# Altium integrated library ST Comm MODEM Circuit.IntLib: 15 symbols
Pins are listed as number, name and electrical type; pins without a type are passive.

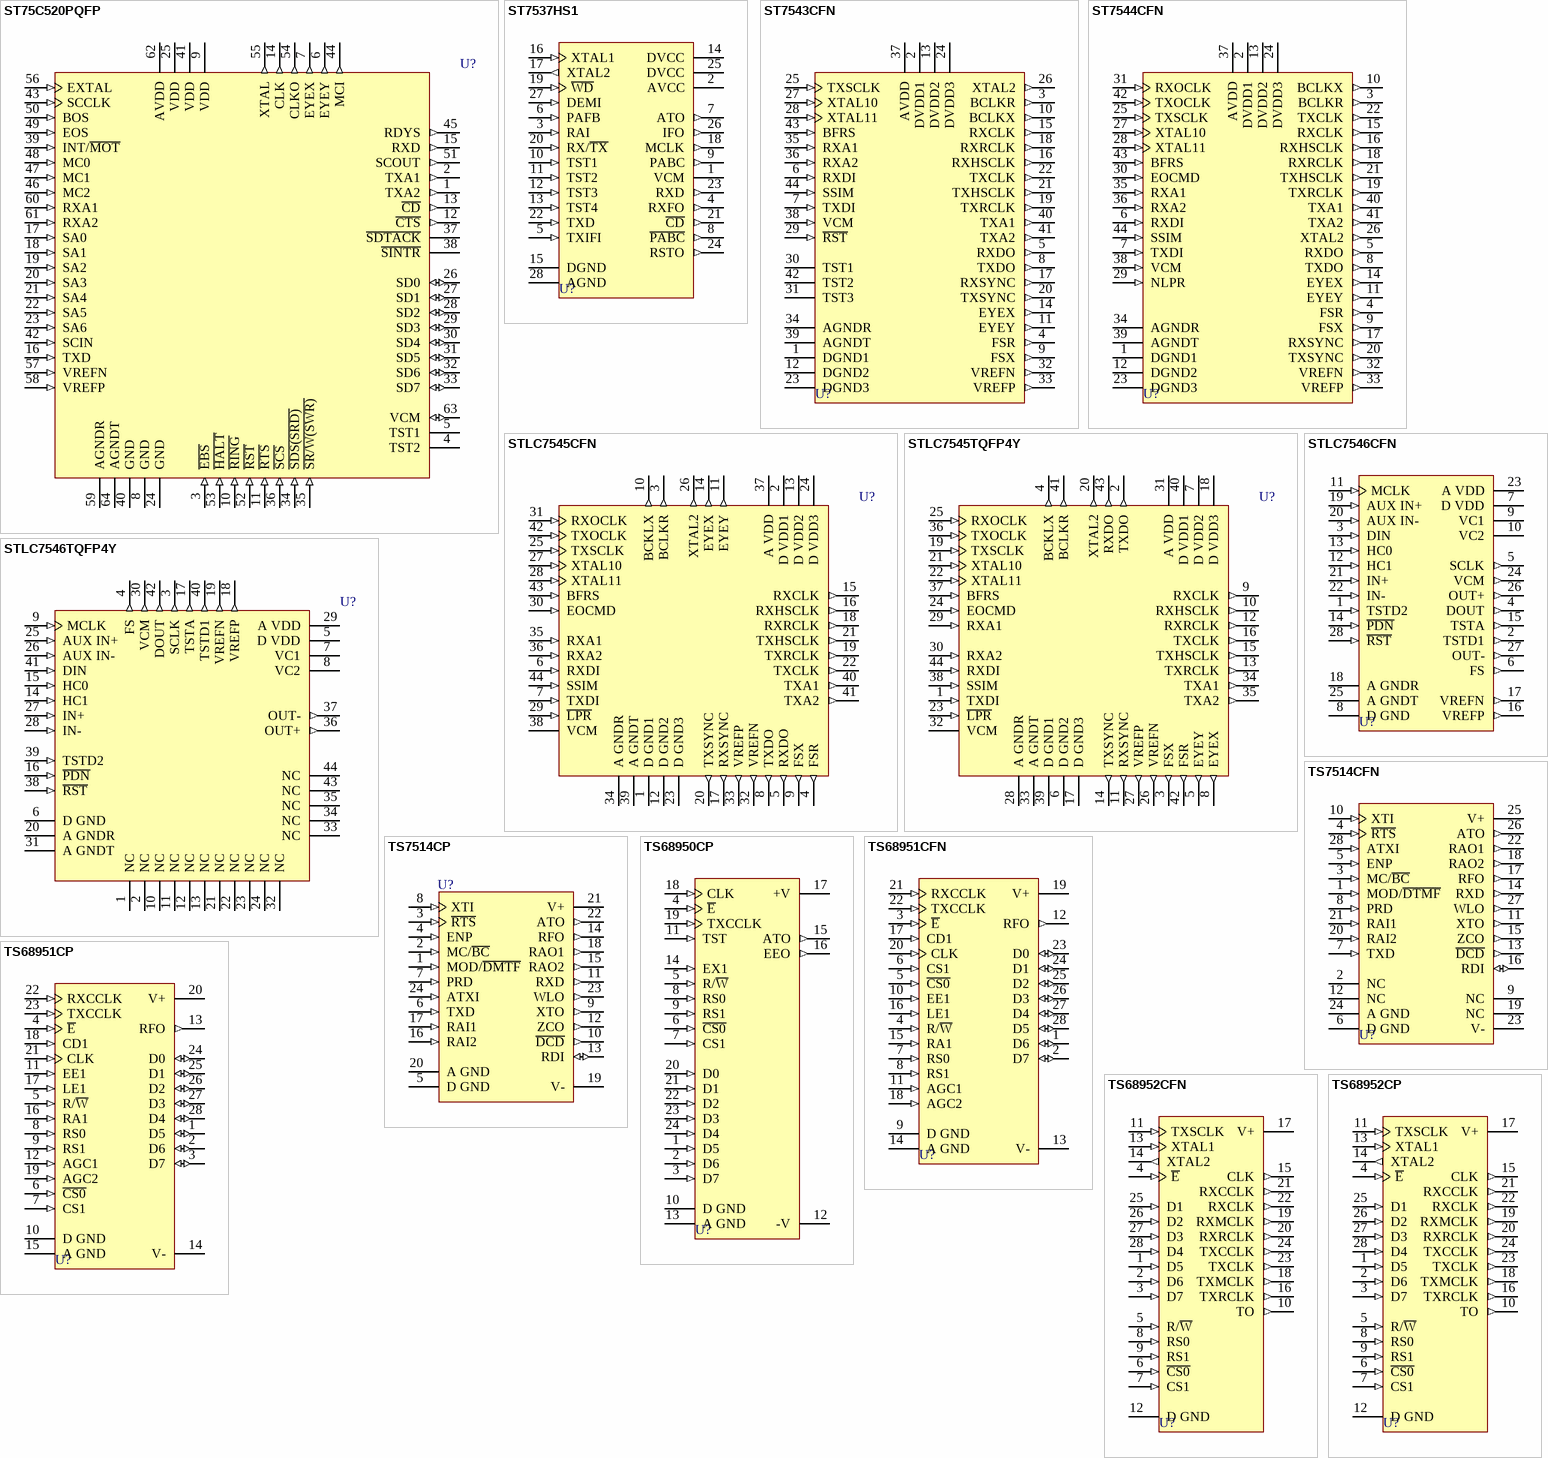
[diagram p0: symbols ST75C520PQFP to TS68952CP]

## ST75C520PQFP
designator U?
High Speed Fax Modem Data Pump; Published: 24-Aug-2001; LatestRevisionDate: 13-Apr-2006; LatestRevisionNote: IPC-7351 Footprint Added.; DatasheetVersion: Jun-1995; PackageVersion: Jul-2001; PackageReference: PQFP64; Publisher: Altium Limited; PackageDescription: 64-Pin Plastic Quad Flat Pack 0.8 mm Pitch; Code_IPC: QFP80P1720X1720-64; ComponentLink1Description: Manufacturer Link; ComponentLink1URL: http://www.st.com/
footprint PQFP64_N (QFP, 64-Leads, Body 14x14mm, Pitch 0.8mm, IPC Medium Density)
footprint PQFP64_L (QFP, 64-Leads, Body 14x14mm, Pitch 0.8mm, IPC High Density)
footprint PQFP64_M (QFP, 64-Leads, Body 14x14mm, Pitch 0.8mm, IPC Low Density)
3D model ST75C520-PQFP64 (64-Pin Plastic Quad Flat Pack 0.8 mm Pitch)
pins: 1 TXA2 (out), 2 TXA1 (out), 3 ~{EBS} (in), 4 TST2, 5 TST1, 6 EYEY (out), 7 EYEX (out), 8 GND (power), 9 VDD (power), 10 ~{RING} (in), 11 ~{RTS} (in), 12 ~{CTS} (out), 13 ~{CD} (out), 14 CLK (out), 15 RXD (out), 16 TXD (in), 17 SA0 (in), 18 SA1 (in), 19 SA2 (in), 20 SA3 (in), 21 SA4 (in), 22 SA5 (in), 23 SA6 (in), 24 GND (power), 25 VDD (power), 26 SD0 (io), 27 SD1 (io), 28 SD2 (io), 29 SD3 (io), 30 SD4 (io), 31 SD5 (io), 32 SD6 (io), 33 SD7 (io), 34 ~{SDS(SRD)} (in), 35 ~{SR/W(SWR)} (in), 36 ~{SCS} (in), 37 ~{SDTACK} (oc), 38 ~{SINTR} (oc), 39 INT/~{MOT} (in), 40 GND (power), 41 VDD (power), 42 SCIN (in), 43 SCCLK (in), 44 MCI (out), 45 RDYS (out), 46 MC2 (in), 47 MC1 (in), 48 MC0 (in), 49 EOS (in), 50 BOS (in), 51 SCOUT (out), 52 ~{RST} (in), 53 ~{HALT} (in), 54 CLKO (out), 55 XTAL (out), 56 EXTAL (in), 57 VREFN (in), 58 VREFP (in), 59 AGNDR (power), 60 RXA1 (in), 61 RXA2 (in), 62 AVDD (power), 63 VCM (io), 64 AGNDT (power)

## ST7537HS1
designator U?
Home Automation Modem; Published: 24-Aug-2001; LatestRevisionDate: 13-Apr-2006; LatestRevisionNote: IPC-7351 Footprint Added.; DatasheetVersion: Jun-1995; PackageVersion: Jan-1995; PackageReference: PLCC28; Publisher: Altium Limited; PackageDescription: 28-Pin Leaded Chip Carrier 1.27 mm Pitch; Code_IPC: PLCC-28; ComponentLink1Description: Manufacturer Link; ComponentLink1URL: http://www.st.com/
footprint PLCC28_N (Leaded Chip Carrier, 28-Leads, Body 11.5x11.5mm, Pitch 1.27mm, IPC Medium Density)
footprint PLCC28_L (Leaded Chip Carrier, 28-Leads, Body 11.5x11.5mm, Pitch 1.27mm, IPC High Density)
footprint PLCC28_M (Leaded Chip Carrier, 28-Leads, Body 11.5x11.5mm, Pitch 1.27mm, IPC Low Density)
3D model ST7537-PLCC28 (28-Pin Leaded Chip Carrier 1.27 mm Pitch)
pins: 1 VCM, 2 AVCC (power), 3 RAI (in), 4 RXFO (out), 5 TXIFI (in), 6 PAFB (in), 7 ATO (out), 8 ~{PABC} (out), 9 PABC (out), 10 TST1 (in), 11 TST2 (in), 12 TST3 (in), 13 TST4 (in), 14 DVCC (power), 15 DGND (power), 16 XTAL1 (in), 17 XTAL2 (out), 18 MCLK (out), 19 ~{WD} (in), 20 RX/~{TX} (in), 21 ~{CD} (out), 22 TXD (in), 23 RXD (out), 24 RSTO (out), 25 DVCC (power), 26 IFO (out), 27 DEMI (in), 28 AGND (power)

## ST7543CFN
designator U?
Universal Modem Analog Front-End (UMAFE); Published: 24-Aug-2001; LatestRevisionDate: 13-Apr-2006; LatestRevisionNote: IPC-7351 Footprint Added.; PackageVersion: Feb-1997; PackageReference: PLCC44A; Publisher: Altium Limited; PackageDescription: 44-Pin Leaded Chip Carrier 1.27 mm Pitch; Code_IPC: PLCC-44; ComponentLink1Description: Manufacturer Link; ComponentLink1URL: http://www.st.com/
footprint PLCC44A_N (Leaded Chip Carrier, 44-Leads, Body 16.6x16.6mm, Pitch 1.27mm, IPC Medium Density)
footprint PLCC44A_L (Leaded Chip Carrier, 44-Leads, Body 16.6x16.6mm, Pitch 1.27mm, IPC High Density)
footprint PLCC44A_M (Leaded Chip Carrier, 44-Leads, Body 16.6x16.6mm, Pitch 1.27mm, IPC Low Density)
3D model ST7543-PLCC44 (44-Pin Leaded Chip Carrier 1.27 mm Pitch)
pins: 1 DGND1 (power), 2 DVDD1 (power), 3 BCLKR (out), 4 FSR (out), 5 RXDO (out), 6 RXDI (in), 7 TXDI (in), 8 TXDO (out), 9 FSX (out), 10 BCLKX (out), 11 EYEY (out), 12 DGND2 (power), 13 DVDD2 (power), 14 EYEX (out), 15 RXCLK (out), 16 RXHSCLK (out), 17 RXSYNC (out), 18 RXRCLK (out), 19 TXRCLK (out), 20 TXSYNC (out), 21 TXHSCLK (out), 22 TXCLK (out), 23 DGND3 (power), 24 DVDD3 (power), 25 TXSCLK (in), 26 XTAL2 (out), 27 XTAL10 (in), 28 XTAL11 (in), 29 ~{RST} (in), 30 TST1, 31 TST3, 32 VREFN (out), 33 VREFP (out), 34 AGNDR (power), 35 RXA1 (in), 36 RXA2 (in), 37 AVDD (power), 38 VCM (in), 39 AGNDT (power), 40 TXA1 (out), 41 TXA2 (out), 42 TST2, 43 BFRS (in), 44 SSIM (in)

## ST7544CFN
designator U?
Universal Modem Analog Front-End (UMAFE); Published: 24-Aug-2001; LatestRevisionDate: 13-Apr-2006; LatestRevisionNote: IPC-7351 Footprint Added.; DatasheetVersion: Jun-1995; PackageVersion: Feb-1997; PackageReference: PLCC44A; Publisher: Altium Limited; PackageDescription: 44-Pin Leaded Chip Carrier 1.27 mm Pitch; Code_IPC: PLCC-44; ComponentLink1Description: Manufacturer Link; ComponentLink1URL: http://www.st.com/
footprint PLCC44A_N (Leaded Chip Carrier, 44-Leads, Body 16.6x16.6mm, Pitch 1.27mm, IPC Medium Density)
footprint PLCC44A_L (Leaded Chip Carrier, 44-Leads, Body 16.6x16.6mm, Pitch 1.27mm, IPC High Density)
footprint PLCC44A_M (Leaded Chip Carrier, 44-Leads, Body 16.6x16.6mm, Pitch 1.27mm, IPC Low Density)
3D model ST7544-PLCC44 (44-Pin Leaded Chip Carrier 1.27 mm Pitch)
pins: 1 DGND1 (power), 2 DVDD1 (power), 3 BCLKR (out), 4 FSR (out), 5 RXDO (out), 6 RXDI (in), 7 TXDI (in), 8 TXDO (out), 9 FSX (out), 10 BCLKX (out), 11 EYEY (out), 12 DGND2 (power), 13 DVDD2 (power), 14 EYEX (out), 15 RXCLK (out), 16 RXHSCLK (out), 17 RXSYNC (out), 18 RXRCLK (out), 19 TXRCLK (out), 20 TXSYNC (out), 21 TXHSCLK (out), 22 TXCLK (out), 23 DGND3 (power), 24 DVDD3 (power), 25 TXSCLK (in), 26 XTAL2 (out), 27 XTAL10 (in), 28 XTAL11 (in), 29 NLPR (in), 30 EOCMD (in), 31 RXOCLK (in), 32 VREFN (out), 33 VREFP (out), 34 AGNDR (power), 35 RXA1 (in), 36 RXA2 (in), 37 AVDD (power), 38 VCM (in), 39 AGNDT (power), 40 TXA1 (out), 41 TXA2 (out), 42 TXOCLK (in), 43 BFRS (in), 44 SSIM (in)

## STLC7545CFN
designator U?
Enhanced V.34 BIS Analog Front-End; Published: 24-Aug-2001; LatestRevisionDate: 13-Apr-2006; LatestRevisionNote: IPC-7351 Footprint Added.; DatasheetVersion: Apr-1996; PackageVersion: Feb-1997; PackageReference: PLCC44A; Publisher: Altium Limited; PackageDescription: 44-Pin Leaded Chip Carrier 1.27 mm Pitch; Code_IPC: PLCC-44; ComponentLink1Description: Manufacturer Link; ComponentLink1URL: http://www.st.com/
footprint PLCC44A_N (Leaded Chip Carrier, 44-Leads, Body 16.6x16.6mm, Pitch 1.27mm, IPC Medium Density)
footprint PLCC44A_L (Leaded Chip Carrier, 44-Leads, Body 16.6x16.6mm, Pitch 1.27mm, IPC High Density)
footprint PLCC44A_M (Leaded Chip Carrier, 44-Leads, Body 16.6x16.6mm, Pitch 1.27mm, IPC Low Density)
3D model STLC7545-PLCC44 (44-Pin Leaded Chip Carrier 1.27 mm Pitch)
pins: 1 D GND1 (power), 2 D VDD1 (power), 3 BCLKR (out), 4 FSR (out), 5 RXDO (out), 6 RXDI (in), 7 TXDI (in), 8 TXDO (out), 9 FSX (out), 10 BCKLX (out), 11 EYEY (out), 12 D GND2 (power), 13 D VDD2 (power), 14 EYEX (out), 15 RXCLK (out), 16 RXHSCLK (out), 17 RXSYNC (out), 18 RXRCLK (out), 19 TXRCLK (out), 20 TXSYNC (out), 21 TXHSCLK (out), 22 TXCLK (out), 23 D GND3 (power), 24 D VDD3 (power), 25 TXSCLK (in), 26 XTAL2 (out), 27 XTAL10 (in), 28 XTAL11 (in), 29 ~{LPR} (in), 30 EOCMD (in), 31 RXOCLK (in), 32 VREFN (out), 33 VREFP (out), 34 A GNDR (power), 35 RXA1 (in), 36 RXA2 (in), 37 A VDD (power), 38 VCM, 39 A GNDT (power), 40 TXA1 (out), 41 TXA2 (out), 42 TXOCLK (in), 43 BFRS (in), 44 SSIM (in)

## STLC7545TQFP4Y
designator U?
Enhanced V.34 BIS Analog Front-End; Published: 24-Aug-2001; LatestRevisionDate: 13-Apr-2006; LatestRevisionNote: IPC-7351 Footprint Added.; DatasheetVersion: Apr-1996; PackageVersion: Oct-2003; PackageReference: TQFP44; Publisher: Altium Limited; PackageDescription: 44-Pin Thin Plastic Quad Flat Pack 0.8 mm Pitch; ComponentLink1Description: Manufacturer Link; ComponentLink1URL: http://www.st.com/
footprint TQFP44_N (Thin QFP, 44-Leads, Body 10x10mm, Pitch 0.8mm, IPC Medium Density)
footprint TQFP44_L (Thin QFP, 44-Leads, Body 10x10mm, Pitch 0.8mm, IPC High Density)
footprint TQFP44_M (Thin QFP, 44-Leads, Body 10x10mm, Pitch 0.8mm, IPC Low Density)
3D model STLC7545-TQFP44 (44-Pin Thin Plastic Quad Flat Pack 0.8 mm Pitch)
pins: 1 TXDI (in), 2 TXDO (out), 3 FSX (out), 4 BCKLX (out), 5 EYEY (out), 6 D GND2 (power), 7 D VDD2 (power), 8 EYEX (out), 9 RXCLK (out), 10 RXHSCLK (out), 11 RXSYNC (out), 12 RXRCLK (out), 13 TXRCLK (out), 14 TXSYNC (out), 15 TXHSCLK (out), 16 TXCLK (out), 17 D GND3 (power), 18 D VDD3 (power), 19 TXSCLK (in), 20 XTAL2 (out), 21 XTAL10 (in), 22 XTAL11 (in), 23 ~{LPR} (in), 24 EOCMD (in), 25 RXOCLK (in), 26 VREFN (out), 27 VREFP (out), 28 A GNDR (power), 29 RXA1 (in), 30 RXA2 (in), 31 A VDD (power), 32 VCM, 33 A GNDT (power), 34 TXA1 (out), 35 TXA2 (out), 36 TXOCLK (in), 37 BFRS (in), 38 SSIM (in), 39 D GND1 (power), 40 D VDD1 (power), 41 BCLKR (out), 42 FSR (out), 43 RXDO (out), 44 RXDI (in)

## STLC7546CFN
designator U?
Modem (V.34BIS) Analog Front-End; Published: 24-Aug-2001; LatestRevisionDate: 13-Apr-2006; LatestRevisionNote: IPC-7351 Footprint Added.; DatasheetVersion: Aug-1998; PackageVersion: Jan-1995; PackageReference: PLCC28; Publisher: Altium Limited; PackageDescription: 28-Pin Leaded Chip Carrier 1.27 mm Pitch; Code_IPC: PLCC-28; ComponentLink1Description: Manufacturer Link; ComponentLink1URL: http://www.st.com/
footprint PLCC28_N (Leaded Chip Carrier, 28-Leads, Body 11.5x11.5mm, Pitch 1.27mm, IPC Medium Density)
footprint PLCC28_L (Leaded Chip Carrier, 28-Leads, Body 11.5x11.5mm, Pitch 1.27mm, IPC High Density)
footprint PLCC28_M (Leaded Chip Carrier, 28-Leads, Body 11.5x11.5mm, Pitch 1.27mm, IPC Low Density)
3D model STLC7546-PLCC28 (28-Pin Leaded Chip Carrier 1.27 mm Pitch)
pins: 1 TSTD2 (in), 2 TSTD1 (out), 3 DIN (in), 4 DOUT (out), 5 SCLK (out), 6 FS (out), 7 D VDD (power), 8 D GND (power), 9 VC1, 10 VC2, 11 MCLK (in), 12 HC1 (in), 13 HC0 (in), 14 ~{PDN} (in), 15 TSTA (out), 16 VREFP (out), 17 VREFN (out), 18 A GNDR (power), 19 AUX IN+ (in), 20 AUX IN- (in), 21 IN+ (in), 22 IN- (in), 23 A VDD (power), 24 VCM (out), 25 A GNDT (power), 26 OUT+ (out), 27 OUT- (out), 28 ~{RST} (in)

## STLC7546TQFP4Y
designator U?
Modem (V.34BIS) Analog Front-End; Published: 24-Aug-2001; LatestRevisionDate: 13-Apr-2006; LatestRevisionNote: IPC-7351 Footprint Added.; DatasheetVersion: Aug-1998; PackageVersion: Oct-2003; PackageReference: TQFP44; Publisher: Altium Limited; PackageDescription: 44-Pin Thin Plastic Quad Flat Pack 0.8 mm Pitch; ComponentLink1Description: Manufacturer Link; ComponentLink1URL: http://www.st.com/
footprint TQFP44_N (Thin QFP, 44-Leads, Body 10x10mm, Pitch 0.8mm, IPC Medium Density)
footprint TQFP44_L (Thin QFP, 44-Leads, Body 10x10mm, Pitch 0.8mm, IPC High Density)
footprint TQFP44_M (Thin QFP, 44-Leads, Body 10x10mm, Pitch 0.8mm, IPC Low Density)
3D model STLC7546-TQFP44 (44-Pin Thin Plastic Quad Flat Pack 0.8 mm Pitch)
pins: 1 NC, 2 NC, 3 SCLK (out), 4 FS (out), 5 D VDD (power), 6 D GND (power), 7 VC1, 8 VC2, 9 MCLK (in), 10 NC, 11 NC, 12 NC, 13 NC, 14 HC1 (in), 15 HC0 (in), 16 ~{PDN} (in), 17 TSTA (out), 18 VREFP (out), 19 VREFN (out), 20 A GNDR (power), 21 NC, 22 NC, 23 NC, 24 NC, 25 AUX IN+ (in), 26 AUX IN- (in), 27 IN+ (in), 28 IN- (in), 29 A VDD (power), 30 VCM (out), 31 A GNDT (power), 32 NC, 33 NC, 34 NC, 35 NC, 36 OUT+ (out), 37 OUT- (out), 38 ~{RST} (in), 39 TSTD2 (in), 40 TSTD1 (out), 41 DIN (in), 42 DOUT (out), 43 NC, 44 NC

## TS7514CFN
designator U?
Programmable V.23 Modem with DTMF; Published: 24-Aug-2001; LatestRevisionDate: 13-Apr-2006; LatestRevisionNote: IPC-7351 Footprint Added.; DatasheetVersion: Nov-1998; PackageVersion: Jan-1995; PackageReference: PLCC28; Publisher: Altium Limited; PackageDescription: 28-Pin Leaded Chip Carrier 1.27 mm Pitch; Code_IPC: PLCC-28; ComponentLink1Description: Manufacturer Link; ComponentLink1URL: http://www.st.com/
footprint PLCC28_N (Leaded Chip Carrier, 28-Leads, Body 11.5x11.5mm, Pitch 1.27mm, IPC Medium Density)
footprint PLCC28_L (Leaded Chip Carrier, 28-Leads, Body 11.5x11.5mm, Pitch 1.27mm, IPC High Density)
footprint PLCC28_M (Leaded Chip Carrier, 28-Leads, Body 11.5x11.5mm, Pitch 1.27mm, IPC Low Density)
3D model TS7514-PLCC28 (28-Pin Leaded Chip Carrier 1.27 mm Pitch)
pins: 1 MOD/~{DTMF} (in), 2 NC, 3 MC/~{BC} (in), 4 ~{RTS} (in), 5 ENP (in), 6 D GND (power), 7 TXD (in), 8 PRD (in), 9 NC, 10 XTI (in), 11 XTO (out), 12 NC, 13 ~{DCD} (out), 14 RXD (out), 15 ZCO (out), 16 RDI (io), 17 RFO (out), 18 RAO2 (out), 19 NC, 20 RAI2 (in), 21 RAI1 (in), 22 RAO1 (out), 23 V- (power), 24 A GND (power), 25 V+ (power), 26 ATO (out), 27 WLO (out), 28 ATXI (in)

## TS7514CP
designator U?
Programmable V.23 Modem with DTMF; Published: 24-Aug-2001; LatestRevisionDate: 06-Jun-2005; LatestRevisionNote: Stylized 3D Model Added.; DatasheetVersion: Nov-1998; PackageVersion: Jan-1995; PackageReference: PDIP24; Publisher: Altium Limited; PackageDescription: DIP; 24 Leads; Row Spacing 15.24 mm; Pitch 2.54 mm; ComponentLink1Description: Manufacturer Link; ComponentLink1URL: http://www.st.com/
footprint PDIP24 (DIP; 24 Leads; Row Spacing 15.24 mm; Pitch 2.54 mm)
3D model PDIP24 (DIP; 24 Leads; Row Spacing 15.24 mm; Pitch 2.54 mm)
pins: 1 MOD/~{DMTF} (in), 2 MC/~{BC} (in), 3 ~{RTS} (in), 4 ENP (in), 5 D GND (power), 6 TXD (in), 7 PRD (in), 8 XTI (in), 9 XTO (out), 10 ~{DCD} (out), 11 RXD (out), 12 ZCO (out), 13 RDI (io), 14 RFO (out), 15 RAO2 (out), 16 RAI2 (in), 17 RAI1 (in), 18 RAO1 (out), 19 V- (power), 20 A GND (power), 21 V+ (power), 22 ATO (out), 23 WLO (out), 24 ATXI (in)

## TS68950CP
designator U?
Modem Transmit Analog Interface; Published: 24-Aug-2001; LatestRevisionDate: 06-Jun-2005; LatestRevisionNote: Stylized 3D Model Added.; DatasheetVersion: Mar-1995; PackageVersion: Jan-1995; PackageReference: PDIP24; Publisher: Altium Limited; PackageDescription: DIP; 24 Leads; Row Spacing 15.24 mm; Pitch 2.54 mm; ComponentLink1Description: Manufacturer Link; ComponentLink1URL: http://www.st.com/
footprint PDIP24 (DIP; 24 Leads; Row Spacing 15.24 mm; Pitch 2.54 mm)
3D model PDIP24 (DIP; 24 Leads; Row Spacing 15.24 mm; Pitch 2.54 mm)
pins: 1 D5 (in), 2 D6 (in), 3 D7 (in), 4 ~{E} (in), 5 R/~{W} (in), 6 ~{CS0} (in), 7 CS1 (in), 8 RS0 (in), 9 RS1 (in), 10 D GND (power), 11 TST (in), 12 -V (power), 13 A GND (power), 14 EX1 (in), 15 ATO (out), 16 EEO (out), 17 +V (power), 18 CLK (in), 19 TXCCLK (in), 20 D0 (in), 21 D1 (in), 22 D2 (in), 23 D3 (in), 24 D4 (in)

## TS68951CFN
designator U?
Modem Receive Analog Interface; Published: 24-Aug-2001; LatestRevisionDate: 13-Apr-2006; LatestRevisionNote: IPC-7351 Footprint Added.; DatasheetVersion: Mar-1995; PackageVersion: Jan-1995; PackageReference: PLCC28; Publisher: Altium Limited; PackageDescription: 28-Pin Leaded Chip Carrier 1.27 mm Pitch; Code_IPC: PLCC-28; ComponentLink1Description: Manufacturer Link; ComponentLink1URL: http://www.st.com/
footprint PLCC28_N (Leaded Chip Carrier, 28-Leads, Body 11.5x11.5mm, Pitch 1.27mm, IPC Medium Density)
footprint PLCC28_L (Leaded Chip Carrier, 28-Leads, Body 11.5x11.5mm, Pitch 1.27mm, IPC High Density)
footprint PLCC28_M (Leaded Chip Carrier, 28-Leads, Body 11.5x11.5mm, Pitch 1.27mm, IPC Low Density)
3D model TS68951-PLCC28 (28-Pin Leaded Chip Carrier 1.27 mm Pitch)
pins: 1 D6 (io), 2 D7 (io), 3 ~{E} (in), 4 R/~{W} (in), 5 ~{CS0} (in), 6 CS1 (in), 7 RS0 (in), 8 RS1 (in), 9 D GND (power), 10 EE1 (in), 11 AGC1 (in), 12 RFO (out), 13 V- (power), 14 A GND (power), 15 RA1 (in), 16 LE1 (in), 17 CD1 (in), 18 AGC2 (in), 19 V+ (power), 20 CLK (in), 21 RXCCLK (in), 22 TXCCLK (in), 23 D0 (io), 24 D1 (io), 25 D2 (io), 26 D3 (io), 27 D4 (io), 28 D5 (io)

## TS68951CP
designator U?
Modem Receive Analog Interface; Published: 24-Aug-2001; LatestRevisionDate: 06-Jun-2005; LatestRevisionNote: Stylized 3D Model Added.; DatasheetVersion: Mar-1995; PackageVersion: Jan-2003; PackageReference: PDIP28; Publisher: Altium Limited; PackageDescription: DIP; 28 Leads; Row Spacing 15.24 mm; Pitch 2.54 mm; ComponentLink1Description: Manufacturer Link; ComponentLink1URL: http://www.st.com/
footprint PDIP28 (DIP; 28 Leads; Row Spacing 15.24 mm; Pitch 2.54 mm)
3D model PDIP28 (DIP; 28 Leads; Row Spacing 15.24 mm; Pitch 2.54 mm)
pins: 1 D5 (io), 2 D6 (io), 3 D7 (io), 4 ~{E} (in), 5 R/~{W} (in), 6 ~{CS0} (in), 7 CS1 (in), 8 RS0 (in), 9 RS1 (in), 10 D GND (power), 11 EE1 (in), 12 AGC1 (in), 13 RFO (out), 14 V- (power), 15 A GND (power), 16 RA1 (in), 17 LE1 (in), 18 CD1 (in), 19 AGC2 (in), 20 V+ (power), 21 CLK (in), 22 RXCCLK (in), 23 TXCCLK (in), 24 D0 (io), 25 D1 (io), 26 D2 (io), 27 D3 (io), 28 D4 (io)

## TS68952CFN
designator U?
Modem Transmit/Receive Clock Generator; Published: 24-Aug-2001; LatestRevisionDate: 13-Apr-2006; LatestRevisionNote: IPC-7351 Footprint Added.; DatasheetVersion: Mar-1995; PackageVersion: Jan-1995; PackageReference: PLCC28; Publisher: Altium Limited; PackageDescription: 28-Pin Leaded Chip Carrier 1.27 mm Pitch; Code_IPC: PLCC-28; ComponentLink1Description: Manufacturer Link; ComponentLink1URL: http://www.st.com/
footprint PLCC28_N (Leaded Chip Carrier, 28-Leads, Body 11.5x11.5mm, Pitch 1.27mm, IPC Medium Density)
footprint PLCC28_L (Leaded Chip Carrier, 28-Leads, Body 11.5x11.5mm, Pitch 1.27mm, IPC High Density)
footprint PLCC28_M (Leaded Chip Carrier, 28-Leads, Body 11.5x11.5mm, Pitch 1.27mm, IPC Low Density)
3D model TS68952-PLCC28 (28-Pin Leaded Chip Carrier 1.27 mm Pitch)
pins: 1 D5 (in), 2 D6 (in), 3 D7 (in), 4 ~{E} (in), 5 R/~{W} (in), 6 ~{CS0} (in), 7 CS1 (in), 8 RS0 (in), 9 RS1 (in), 10 TO (out), 11 TXSCLK (in), 12 D GND (power), 13 XTAL1 (in), 14 XTAL2 (out), 15 CLK (out), 16 TXRCLK (out), 17 V+ (power), 18 TXMCLK (out), 19 RXMCLK (out), 20 RXRCLK (out), 21 RXCCLK (out), 22 RXCLK (out), 23 TXCLK (out), 24 TXCCLK (out), 25 D1 (in), 26 D2 (in), 27 D3 (in), 28 D4 (in)

## TS68952CP
designator U?
Modem Transmit/Receive Clock Generator; Published: 24-Aug-2001; LatestRevisionDate: 06-Jun-2005; LatestRevisionNote: Stylized 3D Model Added.; DatasheetVersion: Mar-1995; PackageVersion: Jan-2003; PackageReference: PDIP28; Publisher: Altium Limited; PackageDescription: DIP; 28 Leads; Row Spacing 15.24 mm; Pitch 2.54 mm; ComponentLink1Description: Manufacturer Link; ComponentLink1URL: http://www.st.com/
footprint PDIP28 (DIP; 28 Leads; Row Spacing 15.24 mm; Pitch 2.54 mm)
3D model PDIP28 (DIP; 28 Leads; Row Spacing 15.24 mm; Pitch 2.54 mm)
pins: 1 D5 (in), 2 D6 (in), 3 D7 (in), 4 ~{E} (in), 5 R/~{W} (in), 6 ~{CS0} (in), 7 CS1 (in), 8 RS0 (in), 9 RS1 (in), 10 TO (out), 11 TXSCLK (in), 12 D GND (power), 13 XTAL1 (in), 14 XTAL2 (out), 15 CLK (out), 16 TXRCLK (out), 17 V+ (power), 18 TXMCLK (out), 19 RXMCLK (out), 20 RXRCLK (out), 21 RXCCLK (out), 22 RXCLK (out), 23 TXCLK (out), 24 TXCCLK (out), 25 D1 (in), 26 D2 (in), 27 D3 (in), 28 D4 (in)